# Altium schematic symbol library RC1206FR-0710KL.SchLib: 1 symbol
Pins are listed as number, name and electrical type; pins without a type are passive.

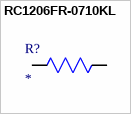
[diagram p0: symbol RC1206FR-0710KL]

## RC1206FR-0710KL
designator R?
RES, 10K, 1%, 0.25W, 1206, THICK FILM; Resistor Case Style:1206 [3216 Metric]; Resistance:10kohm; Product Range:RC Series; Voltage Rating:200V; Resistor Element Material:Thick Film; Power Rating:250mW; Resistance Tolerance:Â± 1%; Temperature Coefficient:Â± 100ppm/Â°C; Automotive Qualification Standard:-; SVHC:No SVHC (15-Jan-2019); MF: Yageo Corporation; MP: RC1206FR0710KL; SnapEDA_Link: https://www.snapeda.com/parts/RC1206FR0710KL/Yageo/view-part/?ref=snap; Package: 1206-2 YAGEO; Value: *; Check_prices: https://www.snapeda.com/parts/RC1206FR0710KL/Yageo/view-part/?ref=eda
footprint RESC3216X71N
pins: 1 R1, 2 R2